# EAGLE library part KX13X (library KX134)
Kionix KX134 Tri-Axis Accelerometer The KX134-1211 is a tri-axis ±8g, ±16g, ±32g, or ±64g silicon micromachined accelerometer featuring a user-configurable 3-stage Advanced Data Path (ADP) consisting of a low-pass filter, low-pass/high-pass filter, and RMS calculation engine. The KX134-1211 accelerometer also features an advanced Wake-Up and Back-to-Sleep detection with a high-resolution threshold capability configurable down to 15.6 mg, 512-byte buffer that continues to record data even when being read, as well as embedded engines for orientation, Directional-TapTM/DoubleTapTM, and Free fall detection.
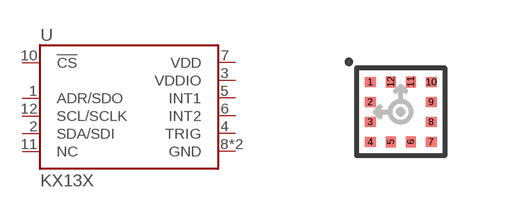
[diagram p0: symbol with the pads of KX13X; footprint KX13X]

Designator prefix U

## KX13X-KX134 (PROD_ID: IC-15486; VALUE: KX134)  [KX13X]
1  ADR/SDO
2  SDA/SDI
3  VDDIO
4  TRIG
5  INT1
6  INT2
7  VDD
8  GND
9  GND
10  !CS
11  NC  nc
12  SCL/SCLK

## KX13X-KX132 (PROD_ID: IC-15721; VALUE: KX132)  [KX13X]
Pads as for KX13X

## Footprint KX13X (pad centres in mm)
Kionix KX134 Tri-Axis Accelerometer The KX134-1211 is a tri-axis ±8g, ±16g, ±32g, or ±64g silicon micromachined accelerometer featuring a user-configurable 3-stage Advanced Data Path (ADP) consisting of a low-pass filter, low-pass/high-pass filter, and RMS calculation engine. The KX134-1211 accelerometer also features an advanced Wake-Up and Back-to-Sleep detection with a high-resolution threshold capability configurable down to 15.6 mg, 512-byte buffer that continues to record data even when being read, as well as embedded engines for orientation, Directional-TapTM/DoubleTapTM, and Free fall detection.
smd 0.275 x 0.25: 1 -0.762,0.75; 2 -0.762,0.25; 3 -0.762,-0.25; 4 -0.762,-0.75; 7 0.762,-0.75; 8 0.762,-0.25; 9 0.762,0.25; 10 0.762,0.75
smd 0.25 x 0.275: 5 -0.25,-0.75; 6 0.25,-0.75; 11 0.25,0.75; 12 -0.25,0.75